# Altium footprint library rcl.PCBLIB: 487 footprints (part 25 of 31)
Each footprint in its own frame and in the unit in brackets; x right, y up, seen from the top. Pads: shape width x height; smd on the part's side, far side on the other; paste and mask are expansions set on the pad; w line width, h text height; cw(c..) or ccw(c..) is an arc to the next point about the centre after c.
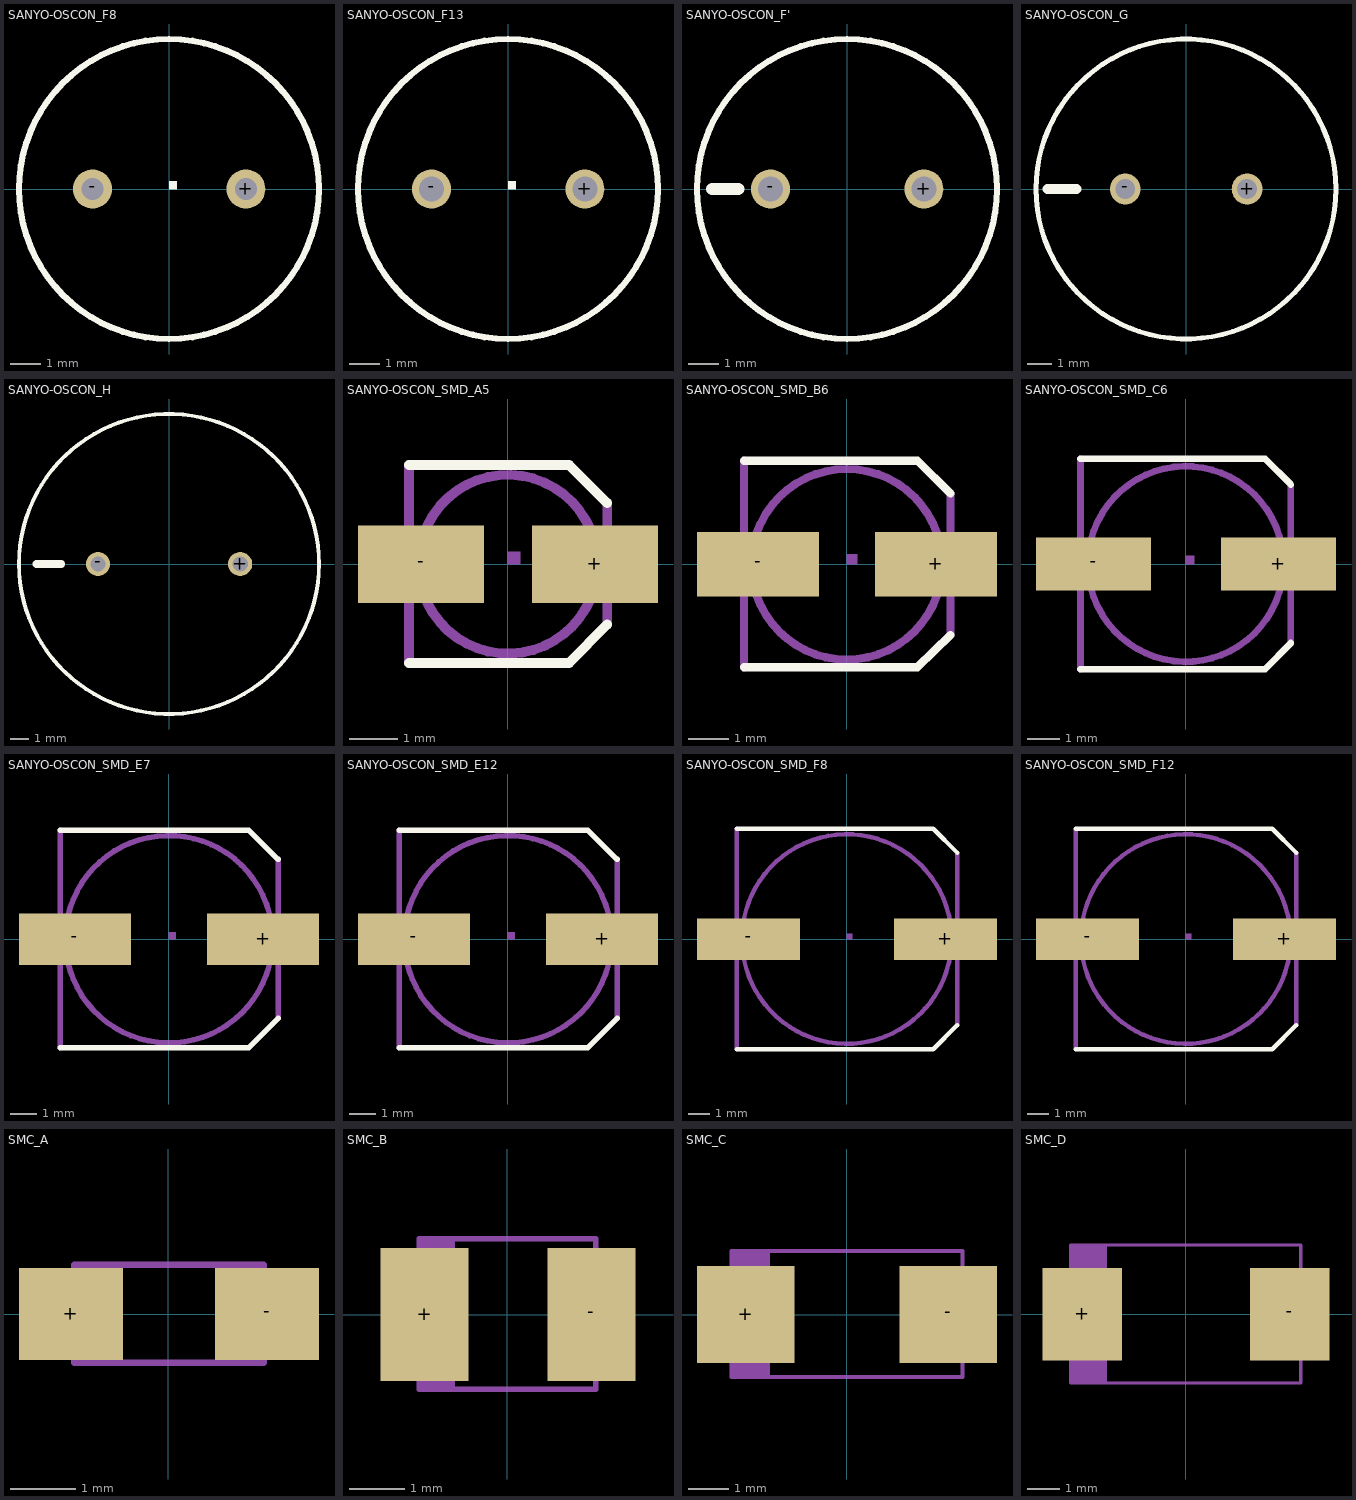
[diagram p24: the footprints below, top view; thin cyan lines are the x and y axes]

## SANYO-OSCON_F8 [mil]
pads (2):
  round 50 hole 28: +(99,0) -(-98.43,0)
Top Overlay:
  circle w8: c0,0 r193
  region: 0,0 10,0 10,10 0,10

## SANYO-OSCON_F13 [mil]
pads (2):
  round 50 hole 32: +(99,0) -(-98.43,0)
Top Overlay:
  circle w8: c0,0 r193
  region: 0,0 10,0 10,10 0,10

## SANYO-OSCON_F' [mil]
pads (2):
  round 50 hole 32: +(99,0) -(-98.43,0)
Top Overlay:
  circle w8: c0,0 r193
  lines w16: -173.23,0 -139.76,0

## SANYO-OSCON_G [mil]
pads (2):
  round 50 hole 32: +(99,0) -(-98.43,0)
Top Overlay:
  circle w8: c0,0 r243
  lines w16: -224.41,0 -177.17,0

## SANYO-OSCON_H [mil]
pads (2):
  round 50 hole 32: +(148,0) -(-147.64,0)
Top Overlay:
  circle w8: c0,0 r312
  lines w16: -275.59,0 -224.41,0

## SANYO-OSCON_SMD_A5 [mil]
pads (2):
  rect 103x63 smd: +(71,0) -(-70.87,0)
Top Overlay:
  lines w8: -80.71,-80.71 50,-80.71 81,-49.21 ; -80.71,81 50,81 81,50
Mechanical 16:
  circle w8: c0,0 r73
  region: 0,0 10,0 10,10 0,10
  lines w8: -80.71,-80.71 -80.71,81 ; 81,-49.21 81,50

## SANYO-OSCON_SMD_B6 [mil]
pads (2):
  rect 119x63 smd: +(87,0) -(-86.61,0)
Top Overlay:
  lines w8: -100.39,-100.39 69,-100.39 101,-68.9 ; -100.39,101 69,101 101,69
Mechanical 16:
  circle w8: c0,0 r93
  region: 0,0 10,0 10,10 0,10
  lines w8: -100.39,-100.39 -100.39,101 ; 101,-68.9 101,69

## SANYO-OSCON_SMD_C6 [mil]
pads (2):
  rect 138x63 smd: +(111,0) -(-110.24,0)
Top Overlay:
  lines w8: -125.98,-125.98 95,-125.98 126,-94.49 ; -125.98,126 95,126 126,95
Mechanical 16:
  circle w8: c0,0 r117
  region: 0,0 10,0 10,10 0,10
  lines w8: -125.98,-125.98 -125.98,126 ; 126,-94.49 126,95

## SANYO-OSCON_SMD_E7 [mil]
pads (2):
  rect 164x75 smd: +(138,0) -(-137.8,0)
Top Overlay:
  lines w8: -159.45,-159.45 117,-159.45 160,-116.14 ; -159.45,160 117,160 160,117
Mechanical 16:
  circle w8: c0,0 r152
  region: 0,0 10,0 10,10 0,10
  lines w8: -159.45,-159.45 -159.45,160 ; 160,-116.14 160,117

## SANYO-OSCON_SMD_E12 [mil]
pads (2):
  rect 164x75 smd: +(138,0) -(-137.8,0)
Top Overlay:
  lines w8: -159.45,-159.45 117,-159.45 160,-116.14 ; -159.45,160 117,160 160,117
Mechanical 16:
  circle w8: c0,0 r152
  region: 0,0 10,0 10,10 0,10
  lines w8: -159.45,-159.45 -159.45,160 ; 160,-116.14 160,117

## SANYO-OSCON_SMD_F8 [mil]
pads (2):
  rect 186x75 smd: +(178,0) -(-177.17,0)
Top Overlay:
  lines w8: -198.82,-198.82 156,-198.82 199,-155.51 ; -198.82,199 156,199 199,156
Mechanical 16:
  circle w8: c0,0 r189
  region: 0,0 10,0 10,10 0,10
  lines w8: -198.82,-198.82 -198.82,199 ; 199,-155.51 199,156

## SANYO-OSCON_SMD_F12 [mil]
pads (2):
  rect 186x75 smd: +(178,0) -(-177.17,0)
Top Overlay:
  lines w8: -198.82,-198.82 156,-198.82 199,-155.51 ; -198.82,199 156,199 199,156
Mechanical 16:
  circle w8: c0,0 r189
  region: 0,0 10,0 10,10 0,10
  lines w8: -198.82,-198.82 -198.82,199 ; 199,-155.51 199,156

## SMC_A [mil]
pads (2):
  rect 63x56 smd: +(-59.06,0) -(60,0)
Mechanical 16:
  rectangle: -62.99,-23.62 -55.12,24
  region: 63,24 56,24 56,-23.62 63,-23.62
  rectangle: -57.09,-29.53 -31.5,30
  lines w4: -57.09,-29.53 58,-29.53 58,30 -57.09,30 -57.09,-29.53

## SMC_B [mil]
pads (2):
  rect 63x95 smd: +(-59.06,0) -(60,0)
Mechanical 16:
  rectangle: -68.9,-43.31 -61.02,44
  region: 69,44 62,44 62,-43.31 69,-43.31
  rectangle: -62.99,-53.15 -37.4,54
  lines w4: -62.99,-53.15 63,-53.15 63,54 -62.99,54 -62.99,-53.15

## SMC_C [mil]
pads (2):
  rect 95x95 smd: +(-98.43,0) -(99,0)
Mechanical 16:
  rectangle: -118.11,-43.31 -110.24,44
  region: 119,44 111,44 111,-43.31 119,-43.31
  rectangle: -112.2,-61.02 -74.8,62
  lines w4: -112.2,-61.02 113,-61.02 113,62 -112.2,62 -112.2,-61.02

## SMC_D [mil]
pads (2):
  rect 95x111 smd: +(-124.02,0) -(125,0)
Mechanical 16:
  rectangle: -143.7,-47.24 -135.83,48
  region: 144,48 136,48 136,-47.24 144,-47.24
  rectangle: -137.8,-82.68 -94.49,83
  lines w4: -137.8,-82.68 138,-82.68 138,83 -137.8,83 -137.8,-82.68